# Altium footprint library Quactel_MC60_footprint.PcbLib: 1 footprints
Each footprint in its own frame and in the unit in brackets; x right, y up, seen from the top. Pads: shape width x height; smd on the part's side, far side on the other; paste and mask are expansions set on the pad; w line width, h text height; cw(c..) or ccw(c..) is an arc to the next point about the centre after c.
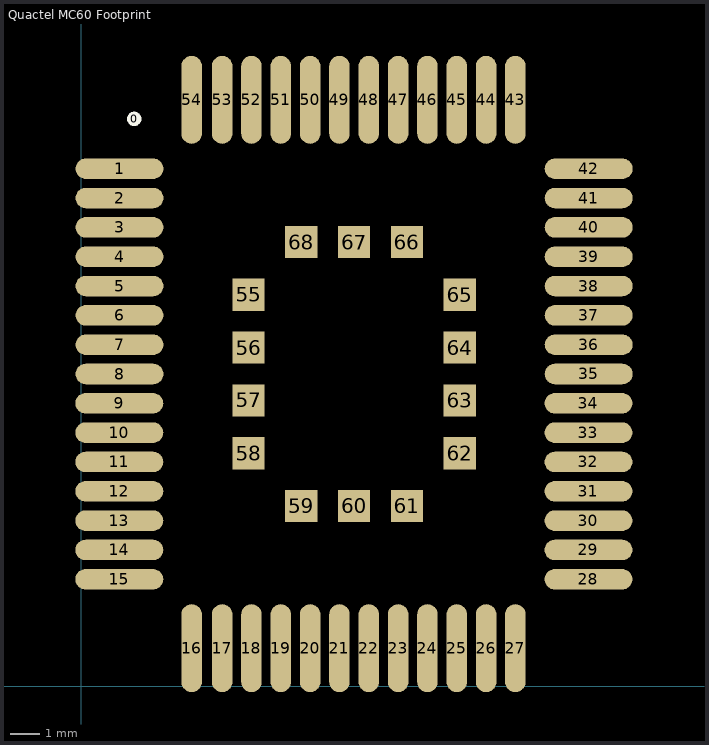
[diagram p0: the footprint, top view; thin cyan lines are the x and y axes]

## Quactel MC60 Footprint [mm]
pads (69):
  round 0.5 on Top Overlay: 0(1.8,19.35)
  rrect100% 3x0.7 smd: 1(1.3,17.65) 2(1.3,16.65) 3(1.3,15.65) 4(1.3,14.65) 5(1.3,13.65) 6(1.3,12.65) 7(1.3,11.65) 8(1.3,10.65) 9(1.292,9.65) 10(1.292,8.65) 11(1.292,7.65) 12(1.292,6.65) 13(1.292,5.65) 14(1.292,4.65) 15(1.292,3.65) 28(17.292,3.65) 29(17.292,4.65) 30(17.292,5.65) 31(17.292,6.65) 32(17.292,7.65) 33(17.292,8.65) 34(17.292,9.65) 35(17.3,10.65) 36(17.3,11.65) 37(17.3,12.65) 38(17.3,13.65) 39(17.3,14.65) 40(17.3,15.65) 41(17.3,16.65) 42(17.3,17.65)
  rrect100% 0.7x3 smd: 16(3.759,1.3) 17(4.8,1.3) 18(5.8,1.3) 19(6.8,1.3) 20(7.8,1.3) 21(8.8,1.3) 22(9.8,1.3) 23(10.8,1.3) 24(11.8,1.3) 25(12.8,1.3) 26(13.8,1.3) 27(14.8,1.3) 43(14.8,20) 44(13.8,20) 45(12.8,20) 46(11.8,20) 47(10.8,20) 48(9.8,20) 49(8.8,20) 50(7.8,20) 51(6.8,20) 52(5.8,20) 53(4.8,20) 54(3.759,20)
  rect 1.1x1.1 smd: 55(5.7,13.35) 56(5.7,11.55) 57(5.7,9.75) 58(5.7,7.95) 59(7.5,6.15) 60(9.3,6.15) 61(11.1,6.15) 62(12.9,7.95) 63(12.9,9.75) 64(12.9,11.55) 65(12.9,13.35) 66(11.1,15.15) 67(9.3,15.15) 68(7.5,15.15)